# Altium footprint library Pedro_pcb_lib.PcbLib: 27 footprints (part 1 of 2)
Each footprint in its own frame and in the unit in brackets; x right, y up, seen from the top. Pads: shape width x height; smd on the part's side, far side on the other; paste and mask are expansions set on the pad; w line width, h text height; cw(c..) or ccw(c..) is an arc to the next point about the centre after c.
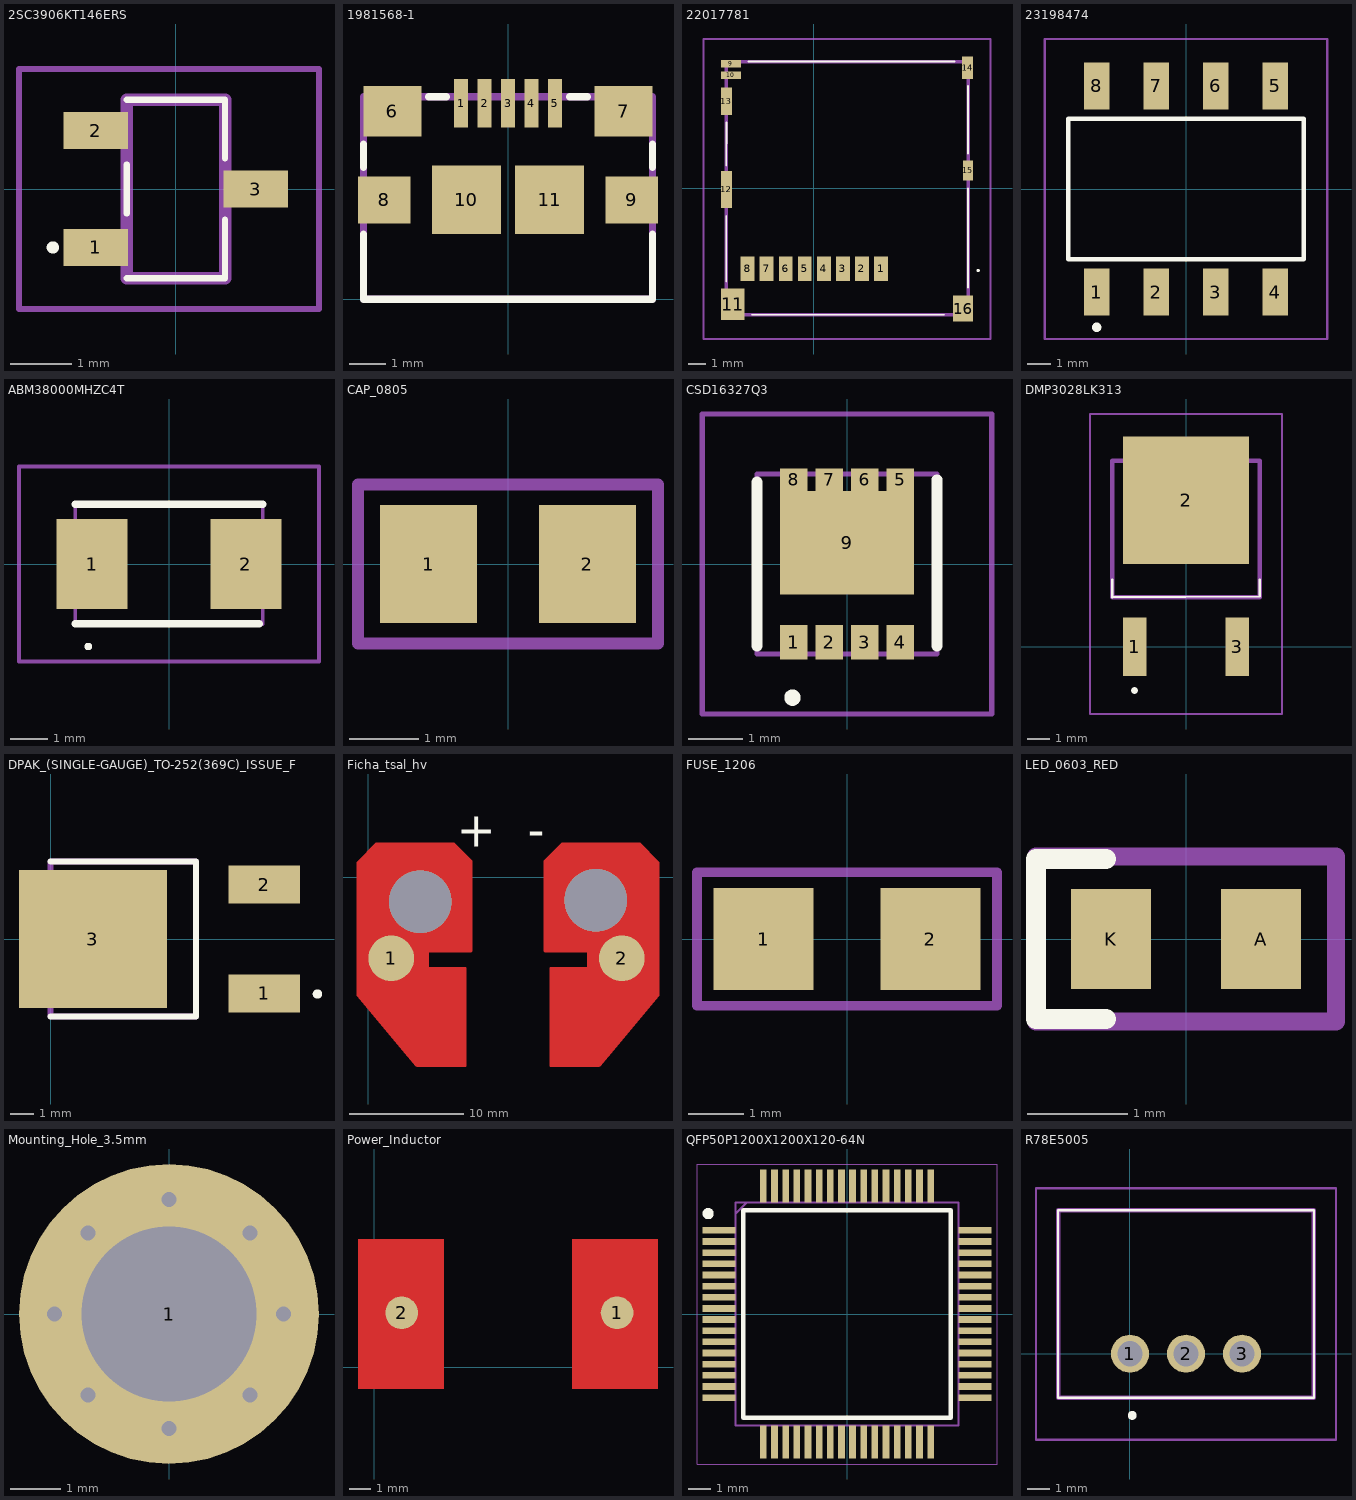
[diagram p0: the footprints below, top view; thin cyan lines are the x and y axes]

## 2SC3906KT146ERS [mm]
pads (3):
  rect 1.05x0.6 smd: 1(-1.3,-0.95) 2(-1.3,0.95) 3(1.3,0)
Top Overlay:
  lines w0.1: -0.8,-1.45 0.8,-1.45 0.8,-0.5 ; -0.8,-0.4 -0.8,0.4 ; -0.8,1.45 0.8,1.45 0.8,0.5 ; -2,-1 ccw(c-2,-0.95) -2,-0.9 ccw(c-2,-0.95) -2,-1
Mechanical 13:
  lines w0.2: -0.8,-1.45 0.8,-1.45 0.8,1.45 -0.8,1.45 -0.8,-1.45
Mechanical 15:
  lines w0.1: -2.55,-1.95 2.325,-1.95 2.325,1.95 -2.55,1.95 -2.55,-1.95
3D body "2SC2412KT146R.stp": height 1.1, standoff 0, extent -1.765,-1.45 1.765,1.45

## 1981568-1 [mm]
pads (11):
  rect 0.4x1.35 smd: 1(-1.3,5.425) 2(-0.65,5.425) 3(0,5.425) 4(0.65,5.425) 5(1.3,5.425)
  rect 1.6x1.4 smd: 6(-3.2,5.2) 7(3.2,5.2)
  rect 1.45x1.3 smd: 8(-3.425,2.75) 9(3.425,2.75)
  rect 1.9x1.9 smd: 10(-1.15,2.75) 11(1.15,2.75)
Top Overlay:
  lines w0.2: -4,1.8 -4,0 4,0 4,1.8 ; -4,3.65 -4,4.29 ; -2.2,5.6 -1.7,5.6 ; 1.7,5.6 2.2,5.6 ; 4,3.65 4,4.29
Mechanical 13:
  lines w0.2: -4,0 4,0 4,5.6 -4,5.6 -4,0
3D body "1981568-1.stp": height 2.79, standoff -0.29, extent -4,0 4,5.6

## 22017781 [mm]
pads (16):
  rect 0.8x1.4 smd: 1(3.875,-4.65) 2(2.774,-4.65) 3(1.674,-4.65) 4(0.574,-4.65) 5(-0.526,-4.65) 6(-1.626,-4.65) 7(-2.726,-4.65) 8(-3.826,-4.65)
  rect 1.15x0.45 smd: 9(-4.791,7.175) 10(-4.791,6.515)
  rect 1.35x1.8 smd: 11(-4.69,-6.7)
  rect 0.65x2.14 smd: 12(-5.041,-0.07)
  rect 0.65x1.6 smd: 13(-5.041,5.01)
  rect 0.65x1.3 smd: 14(8.86,6.95)
  rect 0.6x1.15 smd: 15(8.885,1.025)
  rect 1.16x1.5 smd: 16(8.604,-6.95)
Top Overlay:
  lines w0.1: -5.058,-5.4 -5.058,-1.6 ; -5.058,1.3 -5.041,3.8 ; -3.783,7.3 8.117,7.3 ; -3.583,-7.3 7.517,-7.3 ; 8.885,0 8.892,-5.75 ; 8.885,2 8.885,5.9 ; 9.417,-4.75 cw(c9.467,-4.75) 9.517,-4.75 cw(c9.467,-4.75) 9.417,-4.75
Mechanical 13:
  lines w0.2: -5.058,-7.3 -5.058,7.3 8.892,7.3 8.892,-7.3 -5.058,-7.3
Mechanical 15:
  lines w0.1: -6.366,-8.7 -6.366,8.6 10.185,8.6 10.185,-8.7 -6.366,-8.7
3D body "2201778-1.stp": height 1.8, standoff 0, extent -5.11,-8.87 8.92,7.33

## 23198474 [mm]
pads (8):
  rect 1.1x2 smd: 1(-3.81,-4.4) 2(-1.27,-4.4) 3(1.27,-4.4) 4(3.81,-4.4) 5(3.81,4.4) 6(1.27,4.4) 7(-1.27,4.4) 8(-3.81,4.4)
Top Overlay:
  lines w0.2: -5.03,-3 5.03,-3 5.03,3 -5.03,3 -5.03,-3 ; -3.81,-6 cw(c-3.81,-5.9) -3.81,-5.8 cw(c-3.81,-5.9) -3.81,-6
Mechanical 13:
  lines w0.1: -5.03,-3 5.03,-3 5.03,3 -5.03,3 -5.03,-3
Mechanical 15:
  lines w0.1: -6.03,-6.4 6.03,-6.4 6.03,6.4 -6.03,6.4 -6.03,-6.4
3D body "2319847-4.stp": height 3.8, standoff 0, extent -5.03,-4.9 5.03,4.9

## ABM38000MHZC4T [mm]
pads (2):
  rect 1.9x2.4 smd: 1(-2.05,0) 2(2.05,0)
Top Overlay:
  lines w0.1: -2.2,-2.2 ccw(c-2.15,-2.2) -2.1,-2.2 ccw(c-2.15,-2.2) -2.2,-2.2
  lines w0.2: -2.5,-1.6 2.4,-1.6 ; -2.5,1.6 2.5,1.6
Mechanical 13:
  lines w0.1: -2.5,-1.6 2.5,-1.6 2.5,1.6 -2.5,1.6 -2.5,-1.6
Mechanical 15:
  lines w0.1: -4,-2.6 4,-2.6 4,2.6 -4,2.6 -4,-2.6
3D body "ABM3-8.000MHZ-C4-T.stp": height 1.4, standoff 0, extent -2.81,-1.6 2.81,1.6

## CAP_0805 [mm]
pads (2):
  rect 1.4x1.7 smd: 1(-1.143,0) 2(1.143,0)
Mechanical 13:
  lines w0.175: -2.159,-1.143 -2.159,1.143 2.159,1.143 2.159,-1.143 -2.159,-1.143
  text "'.Designator'" at -5.665,-0.417 h1
3D body "C0805.stp": height 1.01, standoff 0.01, extent -1.15,-0.762 1.15,0.788

## CSD16327Q3 [mm]
pads (9):
  rect 0.5x0.63 smd: 1(-0.975,-1.435) 2(-0.325,-1.435) 3(0.325,-1.435) 4(0.975,-1.435)
  rect 0.5x0.41 smd: 5(0.975,1.545) 6(0.325,1.545) 7(-0.325,1.545) 8(-0.975,1.545)
  rect 2.45x1.9 smd: 9(0,0.39)
Top Overlay:
  lines w0.2: -1,-2.5 ccw(c-1,-2.45) -1,-2.4 ; -1,-2.5 cw(c-1,-2.45) -1,-2.4 ; -1,-2.5 ccw(c-1,-2.45) -1,-2.4 ; -1.65,-1.5 -1.65,1.5 -1.65,-1.5 ; 1.65,-1.5 1.65,1.545 1.65,-1.5
Mechanical 13:
  lines w0.1: -1.65,-1.65 1.65,-1.65 1.65,1.65 -1.65,1.65 -1.65,-1.65
Mechanical 15:
  lines w0.1: -2.65,-2.75 2.65,-2.75 2.65,2.75 -2.65,2.75 -2.65,-2.75
3D body "CSD16327Q3.stp": height 1.2, standoff 0, extent -1.65,-1.7 1.65,1.709

## DMP3028LK313 [mm]
pads (3):
  rect 1.06x2.6 smd: 1(-2.286,0) 3(2.286,0)
  rect 5.632x5.7 smd: 2(0,6.55)
Top Overlay:
  lines w0.1: -3.29,3 -3.29,2.22 3.29,2.25 3.29,3
  lines w0.2: -2.3,-2 ccw(c-2.3,-1.95) -2.3,-1.9 ; -2.3,-2 cw(c-2.3,-1.95) -2.3,-1.9 ; -2.3,-2 ccw(c-2.3,-1.95) -2.3,-1.9
Mechanical 13:
  lines w0.2: -3.29,2.22 -3.29,8.32 3.29,8.32 3.29,2.22 -3.29,2.22
Mechanical 15:
  lines w0.1: -4.29,-3 -4.29,10.4 4.29,10.4 4.29,-3 -4.29,-3
3D body "DMP3028LK3-13.stp": height 2.49, standoff 0, extent -3.29,-1.194 3.29,8.837

## DPAK_(SINGLE-GAUGE)_TO-252(369C)_ISSUE_F [mm]
pads (3):
  rect 3x1.6 smd: 1(8.95,-2.285) 2(8.95,2.285)
  rect 6.2x5.8 smd: 3(1.77,0)
Top Overlay:
  circle w0.254: c11.182,-2.308 r0.068
  lines w0.254: 0,-3.25 6.1,-3.25 6.1,3.25 0,3.25
Mechanical 13:
  lines w0.254: 0,-3.25 0,3.25 6.1,3.25 6.1,-3.25 0,-3.25
3D body "NVD5C478NT4G.stp": height 2.51, standoff 0, extent -0.26,-3.365 10.235,3.365

## Ficha_tsal_hv [mm]
pads (2):
  round 4 smd: 1(2.032,-7.112) 2(22.225,-7.112)
via 4.572,-2.159 diameter 5.5 hole 5.5
via 19.939,-2.032 diameter 5.5 hole 5.5
Top Layer:
  region: 8.509,-16.51 8.509,-8.001 5.207,-8.001 5.207,-6.477 9.017,-6.477 9.017,1.397 7.493,2.921 0.762,2.921 -0.877,1.282 -0.877,-10.383 4.275,-16.51
  region: 25.388,-10.383 20.236,-16.51 16.002,-16.51 16.002,-8.001 19.304,-8.001 19.304,-6.477 15.494,-6.477 15.494,1.397 17.018,2.921 23.749,2.921 25.388,1.282
  lines w0.254: 2.921,2.921 6.096,2.921 ; 21.59,2.921 18.415,2.921 ; 6.096,2.921 7.493,2.921 8.064,2.349 8.445,1.968 8.89,1.524 9.017,1.397 9.017,0 9.017,-6.477 5.207,-6.477 5.207,-8.001 8.509,-8.001 8.509,-16.51 5.08,-16.51 4.275,-16.51 3.067,-15.073 1.135,-12.777 -0.877,-10.383 -0.877,-7.693 -0.877,-3.734 -0.877,-0.877 -0.877,1.282 0.762,2.921 6.096,2.921 ; 18.415,2.921 23.749,2.921 25.388,1.282 25.388,-0.877 25.388,-3.734 25.388,-7.693 25.388,-10.383 23.376,-12.777 21.444,-15.073 20.236,-16.51 19.431,-16.51 16.002,-16.51 16.002,-8.001 19.304,-8.001 19.304,-6.477 15.494,-6.477 15.494,0 15.494,1.397 15.621,1.524 16.066,1.968 16.447,2.349 17.018,2.921 18.415,2.921
Top Overlay:
  text "+" at 7.779,2.635 h3
  text "-" at 13.97,2.667 h3
3D body "1-2141272-1--3DModel-STEP-1.STEP": height 33.5, standoff -16.5, extent -12.808,-63.66 37.192,2.54

## FUSE_1206 [mm]
pads (2):
  rect 1.8x1.84 smd: 1(-1.5,0) 2(1.5,0)
Mechanical 13:
  lines w0.175: -2.7,-1.2 2.7,-1.2 2.7,1.2 -2.7,1.2 -2.7,-1.2
  text "'.Designator'" at -5.665,-0.417 h1
3D body "Fuse_1206.stp": height 0.84, standoff 0.01, extent -1.652,-0.815 1.652,0.815

## LED_0603_RED [mm]
pads (2):
  rect 0.8x1 smd: A(0.75,0) K(-0.75,0)
Top Overlay:
  lines w0.2: -0.8,-0.8 -1.5,-0.8 -1.5,0.8 -0.8,0.8
Mechanical 13:
  lines w0.175: -1.5,-0.825 -1.5,0.825 1.5,0.825 1.5,-0.825 -1.5,-0.825
  text "+" at 1.317,0.608 h0.5
  text "'.Designator'" at -5.665,-0.417 h1
3D body "LED_0603_RED.step": height 0.6, standoff 0, extent -0.8,-0.4 0.8,0.4

## Mounting_Hole_3.5mm [mm]
pads (1):
  round 6 hole 3.5: 1(0,0)
via 0,2.286 diameter 0.5 hole 0.3
via -1.616,1.616 diameter 0.5 hole 0.3
via -2.286,0 diameter 0.5 hole 0.3
via -1.616,-1.616 diameter 0.5 hole 0.3
via 0,-2.286 diameter 0.5 hole 0.3
via 1.616,-1.616 diameter 0.5 hole 0.3
via 2.286,0 diameter 0.5 hole 0.3
via 1.616,1.616 diameter 0.5 hole 0.3

## Power_Inductor [mil]
pads (2):
  round 60 smd mask+0: 1(445,100) 2(50,100)
Top Layer:
  rectangle: -30,-40 127.48,235.59
  rectangle: 362.52,-40 520,235.59
  rectangle: -30,-40 127.48,235.59
3D body "1625812-4--3DModel-STEP-1.STEP": height 236.22, standoff 0, extent -5,-155 495,345

## QFP50P1200X1200X120-64N [mm]
pads (64):
  rect 1.475x0.3 smd: 1(-5.738,3.75) 2(-5.738,3.25) 3(-5.738,2.75) 4(-5.738,2.25) 5(-5.738,1.75) 6(-5.738,1.25) 7(-5.738,0.75) 8(-5.738,0.25) 9(-5.738,-0.25) 10(-5.738,-0.75) 11(-5.738,-1.25) 12(-5.738,-1.75) 13(-5.738,-2.25) 14(-5.738,-2.75) 15(-5.738,-3.25) 16(-5.738,-3.75) 33(5.738,-3.75) 34(5.738,-3.25) 35(5.738,-2.75) 36(5.738,-2.25) 37(5.738,-1.75) 38(5.738,-1.25) 39(5.738,-0.75) 40(5.738,-0.25) 41(5.738,0.25) 42(5.738,0.75) 43(5.738,1.25) 44(5.738,1.75) 45(5.738,2.25) 46(5.738,2.75) 47(5.738,3.25) 48(5.738,3.75)
  rect 0.3x1.475 smd: 17(-3.75,-5.738) 18(-3.25,-5.738) 19(-2.75,-5.738) 20(-2.25,-5.738) 21(-1.75,-5.738) 22(-1.25,-5.738) 23(-0.75,-5.738) 24(-0.25,-5.738) 25(0.25,-5.738) 26(0.75,-5.738) 27(1.25,-5.738) 28(1.75,-5.738) 29(2.25,-5.738) 30(2.75,-5.738) 31(3.25,-5.738) 32(3.75,-5.738) 49(3.75,5.738) 50(3.25,5.738) 51(2.75,5.738) 52(2.25,5.738) 53(1.75,5.738) 54(1.25,5.738) 55(0.75,5.738) 56(0.25,5.738) 57(-0.25,5.738) 58(-0.75,5.738) 59(-1.25,5.738) 60(-1.75,5.738) 61(-2.25,5.738) 62(-2.75,5.738) 63(-3.25,5.738) 64(-3.75,5.738)
Top Overlay:
  circle w0.25: c-6.225,4.5 r0.125
  lines w0.2: -4.65,-4.65 4.65,-4.65 4.65,4.65 -4.65,4.65 -4.65,-4.65
Mechanical 13:
  lines w0.1: -5,4.5 -4.5,5 ; -5,-5 5,-5 5,5 -5,5 -5,-5
Mechanical 15:
  lines w0.05: -6.725,-6.725 6.725,-6.725 6.725,6.725 -6.725,6.725 -6.725,-6.725
3D body "PIC32MK1024MCM064-I_PT.stp": height 1.2, standoff 0, extent -6,-6 6,6

## R78E5005 [mm]
pads (3):
  round 1.725 hole 1.15: 1(0,0) 2(2.54,0) 3(5.08,0)
Top Overlay:
  lines w0.1: -3.26,-2 8.34,-2 8.34,6.5 -3.26,6.5 -3.26,-2
  lines w0.2: 0,-2.8 ccw(c0.1,-2.8) 0.2,-2.8 ccw(c0.1,-2.8) 0,-2.8
Mechanical 13:
  lines w0.2: -3.26,-2 8.34,-2 8.34,6.5 -3.26,6.5 -3.26,-2
Mechanical 15:
  lines w0.1: -4.26,-3.9 9.34,-3.9 ; -4.26,-3.9 -4.26,7.5 ; -4.26,-3.9 9.34,-3.9 ; -4.26,-3.9 -4.26,7.5 ; -4.26,7.5 9.34,7.5 ; -4.26,7.5 9.34,7.5 ; 9.34,-3.9 9.34,7.5 ; 9.34,-3.9 9.34,7.5
3D body "R-78E5.0-0.5.stp": height 10.86, standoff -3.64, extent -3.345,-1.969 8.255,6.541